# EAGLE library part 692141030100 (library SD-kart)
WR-COM USB 3.0 STACKED TYPE A=>Code : Con_I-O_COM_USB-3.0_A_6921410303100 <http://katalog.we-online.de/media/images/eican/Con_I-O_COM_USB-3.0_A_6921410303100_pf2.jpg> Created 2014-07-09, Karrer Zheng 2014 (C) Würth Elektronik
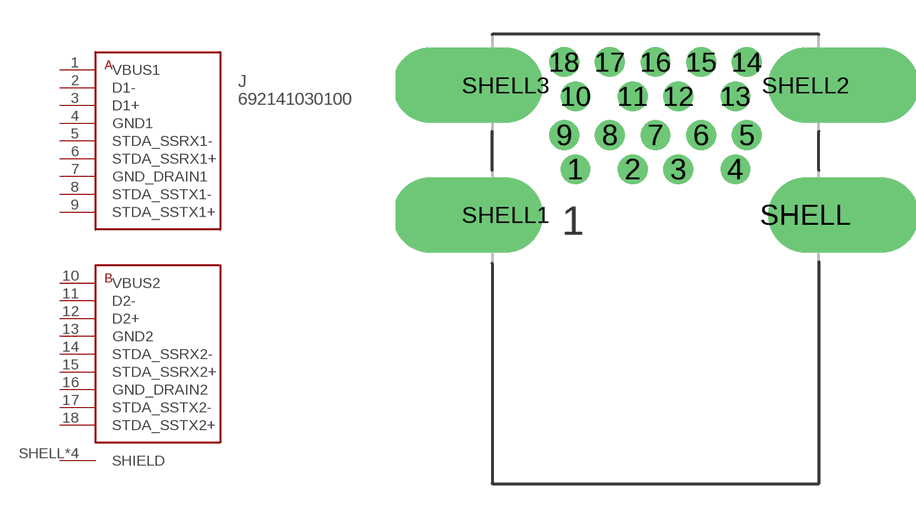
[diagram p75: symbol with the pads of 692141030100; footprint 692141030100]

Designator prefix J

## 692141030100  [692141030100]
1  VBUS1
2  D1-
3  D1+
4  GND1
5  STDA_SSRX1-
6  STDA_SSRX1+
7  GND_DRAIN1
8  STDA_SSTX1-
9  STDA_SSTX1+
10  VBUS2
11  D2-
12  D2+
13  GND2
14  STDA_SSRX2-
15  STDA_SSRX2+
16  GND_DRAIN2
17  STDA_SSTX2-
18  STDA_SSTX2+
SHELL  SHIELD
SHELL1  SHIELD
SHELL2  SHIELD
SHELL3  SHIELD

## Footprint 692141030100 (pad centres in mm)
WR-COM USB 3.0 STACKED TYPE A
drill 0.7 pad 1.3: 1 -3.5,2; 2 -1,2; 3 1,2; 4 3.5,2; 5 4,3.5; 6 2,3.5; 7 0,3.5; 8 -2,3.5; 9 -4,3.5; 10 -3.5,5.2; 11 -1,5.2; 12 1,5.2; 13 3.5,5.2; 14 4,6.7; 15 2,6.7; 16 0,6.7; 17 -2,6.7; 18 -4,6.7
drill 2.3 offset: SHELL 6.57,0; SHELL1 -6.57,0; SHELL2 6.57,5.68; SHELL3 -6.57,5.68